# EAGLE library part LM319 (library radu-collected)
OP AMP
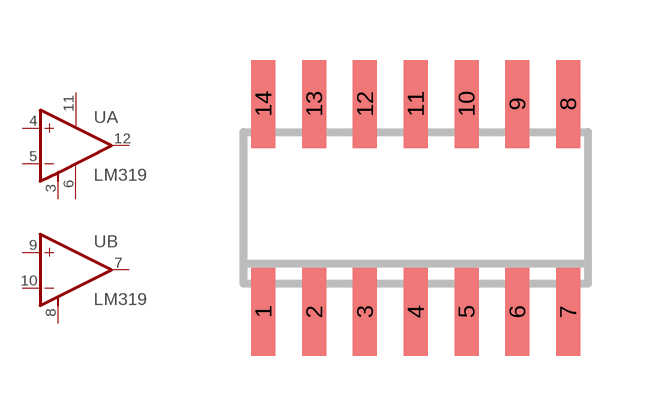
[diagram p10: symbol with the pads of SO14; footprint SO14]

Designator prefix U; gates P=PWR+- A=_GENERIC_COMPARATOR_ISOLATED B=_GENERIC_COMPARATOR_ISOLATED

## LM319M  [SO14]
3  A:GND  pwr
4  A:+IN  in
5  A:-IN  in
6  P:V-  pwr
7  B:OUT  out
8  B:GND  pwr
9  B:+IN  in
10  B:-IN  in
11  P:V+  pwr
12  A:OUT  out

## Footprint SO14 (pad centres in mm)
Small Outline Package 14
smd 0.6 x 2.2: 1 -3.81,-2.6; 2 -2.54,-2.6; 3 -1.27,-2.6; 4 0,-2.6; 5 1.27,-2.6; 6 2.54,-2.6; 7 3.81,-2.6; 8 3.81,2.6; 9 2.54,2.6; 10 1.27,2.6; 11 0,2.6; 12 -1.27,2.6; 13 -2.54,2.6; 14 -3.81,2.6